# Altium footprint library PCB_Other.PcbLib: 1 footprints
Each footprint in its own frame and in the unit in brackets; x right, y up, seen from the top. Pads: shape width x height; smd on the part's side, far side on the other; paste and mask are expansions set on the pad; w line width, h text height; cw(c..) or ccw(c..) is an arc to the next point about the centre after c.
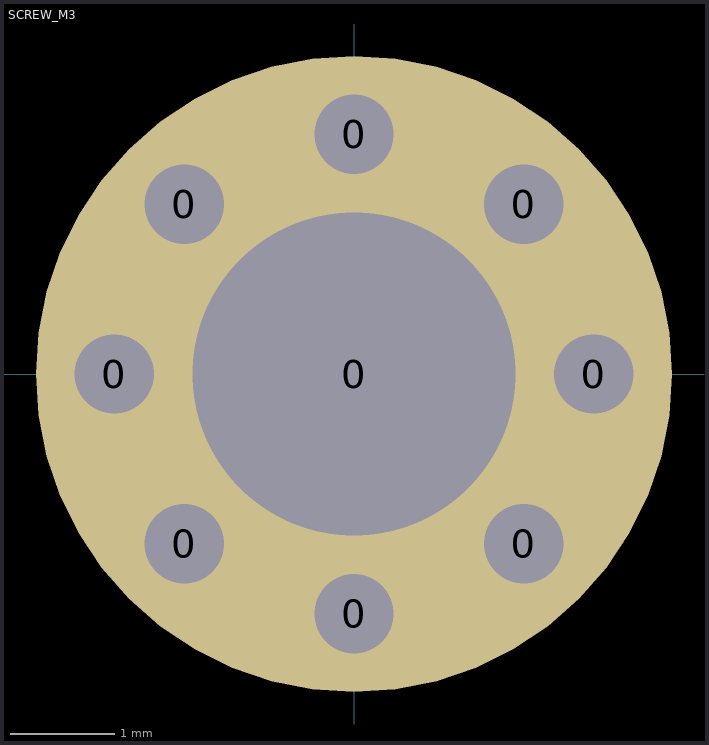
[diagram p0: the footprint, top view; thin cyan lines are the x and y axes]

## SCREW_M3 [mil]
height 396
pads (9):
  round 50 hole 30: 0(-90.55,0) 0(-64.03,-64.03) 0(-64.03,64.03) 0(0,-90.55) 0(0,90.55) 0(64.03,-64.03) 0(64.03,64.03) 0(90.55,0)
  round 240.16 hole 122.05: 0(0,0)